# Altium schematic symbol library symbols.SchLib: 23 symbols
Pins are listed as number, name and electrical type; pins without a type are passive.

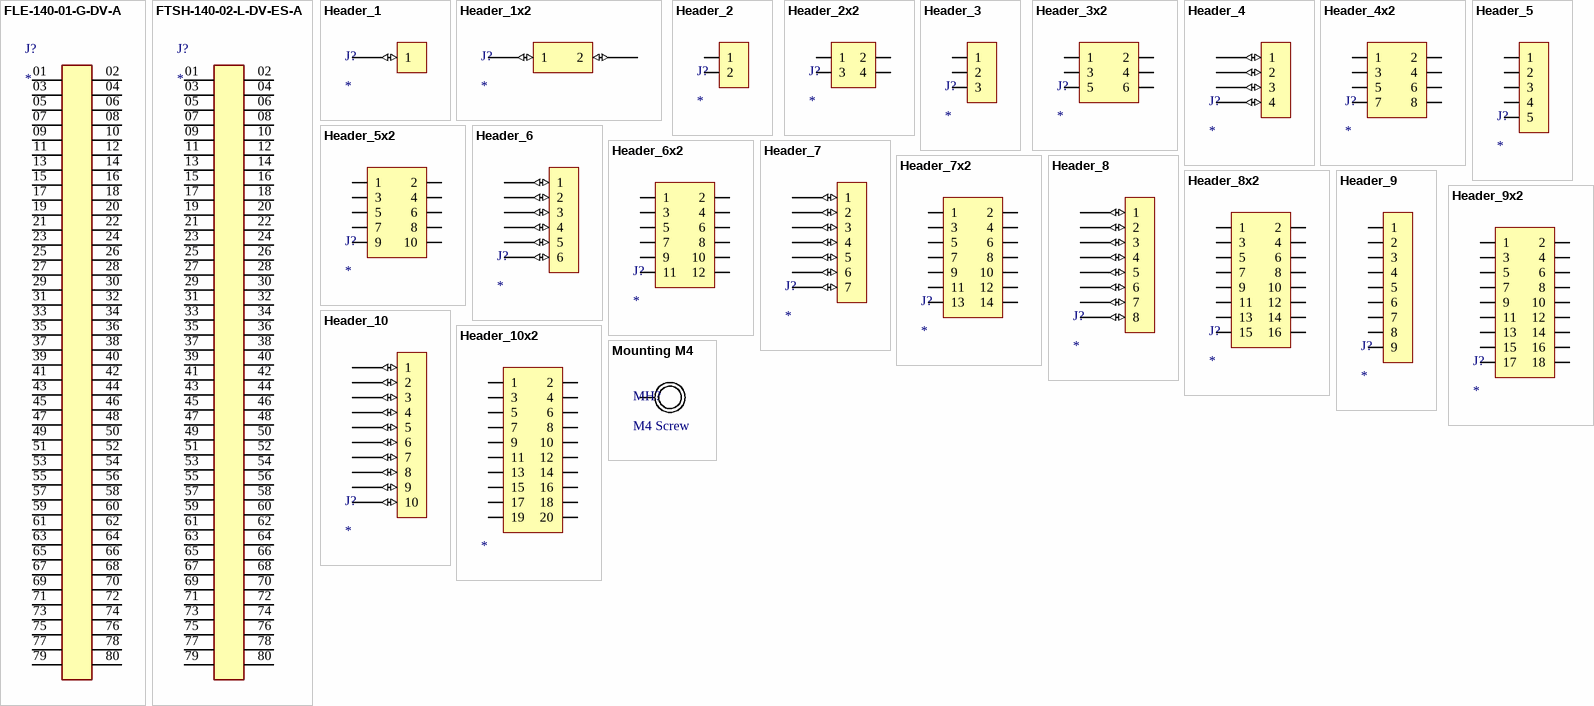
[diagram p0: symbols FLE-140-01-G-DV-A to Mounting M4]

## FLE-140-01-G-DV-A
designator J?
Board Connector, 80 Contact(s), 2 Row(s), Female, Straight, 0.05 inch Pitch, Surface Mount Terminal, Black Insulator, Socket; Manufacturer: Samtec; Manufacturer Part Number: FLE-140-01-G-DV-A; Body/Shell Style: PLUG; Contact Pattern: RECTANGULAR; Contact Resistance: 15mR; Contact Style: SQ PIN-SKT; Insertion Force-Max: 0.417N; Number Of Connectors: 1; Number Of PCB Rows: 2; Rated Current (Signal): 2A; Number of Contacts: 80; Additional Feature: NONE; Polarization Key: POLARIZED HOUSING; Body Breadth: 0.131inch; Body Depth: 0.179inch; Body Length: 2.004inch; Plating Thickness: 10uin; Mounting Option 1: LOCKING; Reference Standard: UL; Reliability: COMMERCIAL; Supplier: Mouser; Supplier Part Number: 200-FLE14001GDVA; RoHS: Yes; Category: Connectors; Stock: 32; Pricing: 1=9,84, 10=9,84, 50=9,21, 100=7,9, 1000=6,02, 10000=3,13 (USD); Mounting Technology: Board; Contact Finish - Mating: NOT SPECIFIED; Contact Finish - Termination: Gold (Au) - with Nickel (Ni) barrier; Insulation Color: Black; Insulation Material: Polymer; Min Operating Temperature: -55°C; Max Operating Temperature: 125°C; Connector Type: BOARD CONNECTOR; JESD-609 Code: e4; Contact Gender: Female; Mounting Style: STRAIGHT; Number of Rows Loaded: 2; PCB Contact Pattern: RECTANGULAR; Termination: SMD/SMT; Withdrawl Force-Min: 0.417N; Mating Contact Pitch: 0.05inch; Mating Contact Row Spacing: 0.05inch; Terminal Pitch: 1.27mm; RoHS Compliant: Yes; Reach SVHC Compliant: No; ComponentLink1URL: https://datasheet.ciiva.com:443/pdfs/VipMasterIC/IC/SAMI/SAMI-S-A0003128283/SAMI-S-A0003128283-1.pdf?src-supplier=IHS+Markit; ComponentLink1Description: https://datasheet.ciiva.com:443/pdfs/VipMasterIC/IC/SAMI/SAMI-S-A0003128283/SAMI-S-A0003128283-1.pdf?src-supplier=IHS+Markit; ComponentLink2URL: http://suddendocs.samtec.com/prints/fle-1xx-xx-xx-dv-x-mkt.pdf?src-supplier=Digikey; ComponentLink2Description: http://suddendocs.samtec.com/prints/fle-1xx-xx-xx-dv-x-mkt.pdf?src-supplier=Digikey; ComponentLink3URL: http://www.samtec.com/documents/webfiles/pdf/FLE_SM.PDF?src-supplier=Avnet; ComponentLink3Description: http://www.samtec.com/documents/webfiles/pdf/FLE_SM.PDF?src-supplier=Avnet; ComponentLink4URL: https://datasheet.octopart.com/FLE-140-01-G-DV-A-Samtec-datasheet-97005198.pdf?src-supplier=Element14; ComponentLink4Description: https://datasheet.octopart.com/FLE-140-01-G-DV-A-Samtec-datasheet-97005198.pdf?src-supplier=Element14; ComponentLink5URL: https://datasheet.octopart.com/FLE-140-01-G-DV-A-Samtec-datasheet-116535177.pdf?src-supplier=Toby+Electronics; ComponentLink5Description: https://datasheet.octopart.com/FLE-140-01-G-DV-A-Samtec-datasheet-116535177.pdf?src-supplier=Toby+Electronics; ComponentLink6URL: https://datasheet.octopart.com/FLE-140-01-G-DV-A-Samtec-datasheet-118235236.pdf?src-supplier=Master+Electronics; ComponentLink6Description: https://datasheet.octopart.com/FLE-140-01-G-DV-A-Samtec-datasheet-118235236.pdf?src-supplier=Master+Electronics; ComponentLink7URL: https://datasheet.octopart.com/FLE-140-01-G-DV-A-Samtec-datasheet-141944615.pdf?src-supplier=Sager+Electronics; ComponentLink7Description: https://datasheet.octopart.com/FLE-140-01-G-DV-A-Samtec-datasheet-141944615.pdf?src-supplier=Sager+Electronics
footprint FLE-140-01-XX-DV-A
pins: 01, 02, 03, 04, 05, 06, 07, 08, 09, 10, 11, 12, 13, 14, 15, 16, 17, 18, 19, 20, 21, 22, 23, 24, 25, 26, 27, 28, 29, 30, 31, 32, 33, 34, 35, 36, 37, 38, 39, 40, 41, 42, 43, 44, 45, 46, 47, 48, 49, 50, 51, 52, 53, 54, 55, 56, 57, 58, 59, 60, 61, 62, 63, 64, 65, 66, 67, 68, 69, 70, 71, 72, 73, 74, 75, 76, 77, 78, 79, 80

## FTSH-140-02-L-DV-ES-A
designator J?
Board Connector; Manufacturer: Samtec; Manufacturer Part Number: FTSH-140-02-L-DV-ES-A; Supplier: Digikey; Supplier Part Number: SAM9464-ND; RoHS: Yes; Category: Headers and Wire Housings; Stock: 78; Pricing: 1=9,65, 10=9,348, 25=9,0468, 50=8,4226, 100=7,1666 (USD); Contact Finish - Termination: MATTE TIN; Contact Material: Bronze; Contact Finish - Mating: GOLD (10); Connector Type: BOARD CONNECTOR; JESD-609 Code: e3; RoHS Compliant: Yes; Reach SVHC Compliant: No; ComponentLink1URL: https://datasheet.ciiva.com:443/pdfs/VipMasterIC/IC/SAMI/SAMI-S-A0005694125/SAMI-S-A0005694125-1.pdf?src-supplier=IHS+Markit; ComponentLink1Description: https://datasheet.ciiva.com:443/pdfs/VipMasterIC/IC/SAMI/SAMI-S-A0005694125/SAMI-S-A0005694125-1.pdf?src-supplier=IHS+Markit; ComponentLink2URL: https://datasheet.ciiva.com/9623/ftsh-mt-9623839.pdf?src-supplier=Avnet; ComponentLink2Description: https://datasheet.ciiva.com/9623/ftsh-mt-9623839.pdf?src-supplier=Avnet
footprint SAMTEC_FTSH-140-XX-XXX-DV-ES-A
pins: 01, 02, 03, 04, 05, 06, 07, 08, 09, 10, 11, 12, 13, 14, 15, 16, 17, 18, 19, 20, 21, 22, 23, 24, 25, 26, 27, 28, 29, 30, 31, 32, 33, 34, 35, 36, 37, 38, 39, 40, 41, 42, 43, 44, 45, 46, 47, 48, 49, 50, 51, 52, 53, 54, 55, 56, 57, 58, 59, 60, 61, 62, 63, 64, 65, 66, 67, 68, 69, 70, 71, 72, 73, 74, 75, 76, 77, 78, 79, 80

## Header_1
designator J?
footprint HEADER_1
pins: 1 (io)

## Header_1x2
designator J?
footprint Header_1x2
pins: 1 (io), 2 (io)

## Header_2
designator J?
footprint HEADER_2
pins: 1, 2

## Header_2x2
designator J?
footprint Header_2x2
pins: 1, 2, 3, 4

## Header_3
designator J?
footprint HEADER_3
pins: 1, 2, 3

## Header_3x2
designator J?
footprint Header_3x2
pins: 1, 2, 3, 4, 5, 6

## Header_4
designator J?
footprint HEADER_4
pins: 1 (io), 2 (io), 3 (io), 4 (io)

## Header_4x2
designator J?
footprint header_4x2
pins: 1, 2, 3, 4, 5, 6, 7, 8

## Header_5
designator J?
footprint HEADER_5
pins: 1, 2, 3, 4, 5

## Header_5x2
designator J?
footprint header_5x2
pins: 1, 2, 3, 4, 5, 6, 7, 8, 9, 10

## Header_6
designator J?
footprint HEADER_6
pins: 1 (io), 2 (io), 3 (io), 4 (io), 5 (io), 6 (io)

## Header_6x2
designator J?
footprint header_6x2
pins: 1, 2, 3, 4, 5, 6, 7, 8, 9, 10, 11, 12

## Header_7
designator J?
footprint HEADER_7
pins: 1 (io), 2 (io), 3 (io), 4 (io), 5 (io), 6 (io), 7 (io)

## Header_7x2
designator J?
footprint header_7x2
pins: 1, 2, 3, 4, 5, 6, 7, 8, 9, 10, 11, 12, 13, 14

## Header_8
designator J?
footprint HEADER_8
pins: 1 (io), 2 (io), 3 (io), 4 (io), 5 (io), 6 (io), 7 (io), 8 (io)

## Header_8x2
designator J?
footprint header_8x2
pins: 1, 2, 3, 4, 5, 6, 7, 8, 9, 10, 11, 12, 13, 14, 15, 16

## Header_9
designator J?
footprint HEADER_9
pins: 1, 2, 3, 4, 5, 6, 7, 8, 9

## Header_9x2
designator J?
footprint header_9x2
pins: 1, 2, 3, 4, 5, 6, 7, 8, 9, 10, 11, 12, 13, 14, 15, 16, 17, 18

## Header_10
designator J?
footprint HEADER_10
pins: 1 (io), 2 (io), 3 (io), 4 (io), 5 (io), 6 (io), 7 (io), 8 (io), 9 (io), 10 (io)

## Header_10x2
designator J?
footprint Header_10x2
pins: 1, 2, 3, 4, 5, 6, 7, 8, 9, 10, 11, 12, 13, 14, 15, 16, 17, 18, 19, 20

## Mounting M4
designator MH?, comment M4 Screw  (mechanical)
footprint M4
footprint M4-3D
pins: 1